# EAGLE library part DRV883X_H-BRIDGE (library PiB)
DRV883x Series H-Bridge - DRV8837 -> PWM (IN1 & IN2); DRV8838 -> PH IN1/ENA IN2
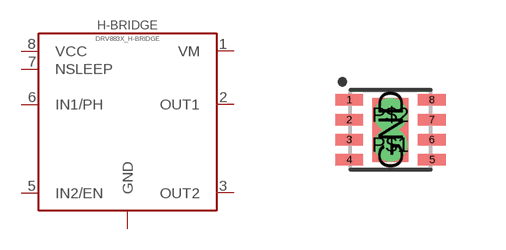
[diagram p3: symbol with the pads of WSON-8-PPAD; footprint WSON-8-PPAD]

Designator prefix H-BRIDGE

## DRV883X_H-BRIDGE_DRV8837C_1A (DATASHEET: http://www.ti.com/lit/ds/symlink/drv8837c.pdf; DIST: Digikey; DISTLINK: https://www.digikey.com/products/en?keywords=296-44747-1-ND; DISTPN: 296-44747-1-ND; MFR: Texas Instruments; MPN: DRV8837CDSGT; VALUE: DRV8837C 1A)  [WSON-8-PPAD]
1  VM  pas
2  OUT1  pas
3  OUT2  pas
4  GND  pas
5  IN2/EN  in
6  IN1/PH  in
7  NSLEEP  pas
8  VCC  pas
GND  GND  pas
P$1  GND  pas
P$2  GND  pas

## DRV883X_H-BRIDGE_DRV8838D_1.8A (DATASHEET: http://www.ti.com/lit/ds/symlink/drv8838.pdf; DIST: Digikey; DISTLINK: https://www.digikey.com/products/en?keywords=296-40081-1-ND; DISTPN: 296-40081-1-ND; MFR: Texas Instruments; MPN: DRV8838DSGR; VALUE: DRV8838D 1.8A)  [WSON-8-PPAD]
Pads as for WSON-8-PPAD

## Footprint WSON-8-PPAD (pad centres in mm)
smd 0.7 x 0.28: 1 -1.035,0.75; 2 -1.035,0.25; 3 -1.035,-0.25; 4 -1.035,-0.75; 5 1.035,-0.75; 6 1.035,-0.25; 7 1.035,0.25; 8 1.035,0.75
smd 0.9 x 1.6: GND 0,0
drill 0.33 pad 0.75: P$1 0,-0.38; P$2 0,0.37